# EAGLE library part XR-2321J (library exar)
V.23/V.21 MODEM
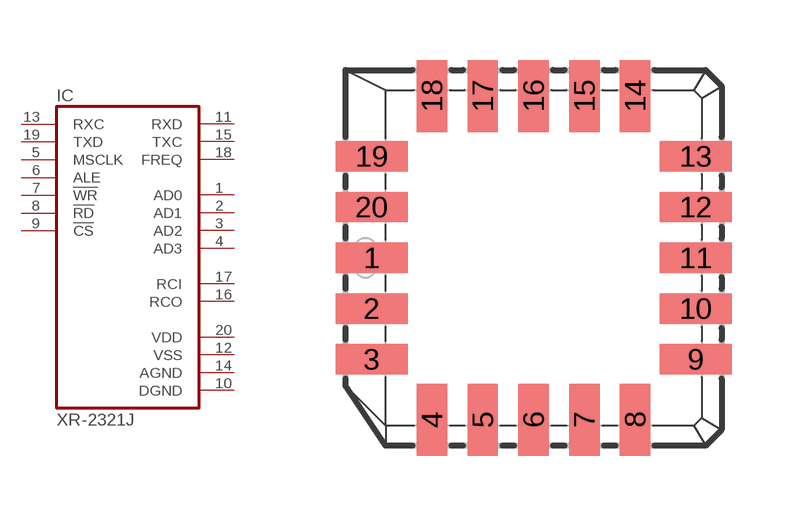
[diagram p81: symbol with the pads of PLCC20; footprint PLCC20]

Designator prefix IC

## XR-2321J (OC_FARNELL: unknown; OC_NEWARK: unknown)  [PLCC20]
1  AD0
2  AD1
3  AD2
4  AD3
5  MSCLK  in
6  ALE  in
7  !WR  in
8  !RD  in
9  !CS  in
10  DGND  pwr
11  RXD  out
12  VSS  pwr
13  RXC  in
14  AGND  pwr
15  TXC  out
16  RCO
17  RCI
18  FREQ  out
19  TXD  in
20  VDD  pwr

## Footprint PLCC20 (pad centres in mm)
Plastic Leaded Chip Carrier
smd 1.8 x 0.76: 1 -4.05,0; 2 -4.05,-1.27; 3 -4.05,-2.54; 9 4.05,-2.54; 10 4.05,-1.27; 11 4.05,0; 12 4.05,1.27; 13 4.05,2.54; 19 -4.05,2.54; 20 -4.05,1.27
smd 0.76 x 1.8: 4 -2.54,-4.05; 5 -1.27,-4.05; 6 0,-4.05; 7 1.27,-4.05; 8 2.54,-4.05; 14 2.54,4.05; 15 1.27,4.05; 16 0,4.05; 17 -1.27,4.05; 18 -2.54,4.05